# EAGLE library part ZL30250 (library microsemi)
Clock Generator 0.001MHz to 1.25GHz Input
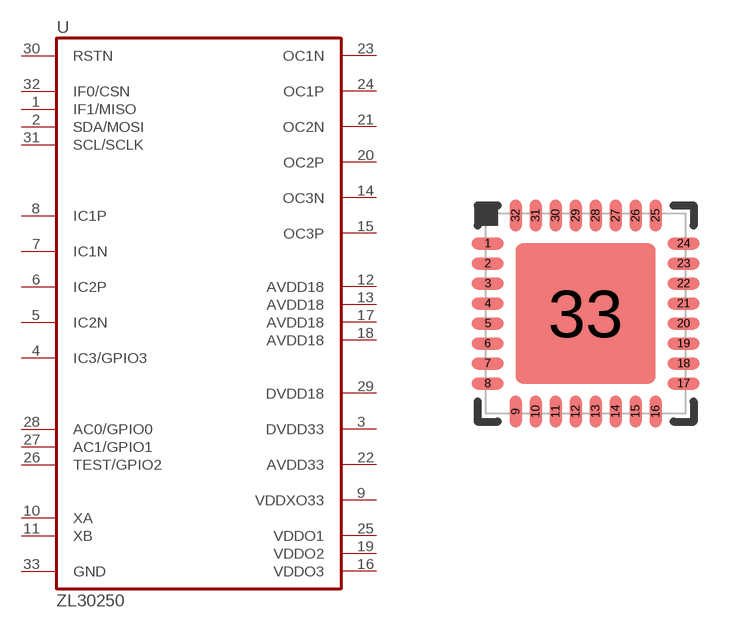
[diagram p0: symbol with the pads of QFN32-5X5; footprint QFN32-5X5]

Designator prefix U

## ZL30250  [QFN32-5X5]
1  IF1/MISO
2  SDA/MOSI
3  DVDD33  oc
4  IC3/GPIO3
5  IC2N
6  IC2P
7  IC1N
8  IC1P
9  VDDXO33  oc
10  XA  in
11  XB  out
12  AVDD18  oc
13  AVDD18  oc
14  OC3N  out
15  OC3P  out
16  VDDO3  oc
17  AVDD18  oc
18  AVDD18  oc
19  VDDO2  oc
20  OC2P  out
21  OC2N  out
22  AVDD33  oc
23  OC1N  out
24  OC1P  out
25  VDDO1  oc
26  TEST/GPIO2
27  AC1/GPIO1
28  AC0/GPIO0
29  DVDD18  oc
30  RSTN  in
31  SCL/SCLK
32  IF0/CSN
33  GND  oc

## Footprint QFN32-5X5 (pad centres in mm)
QFN-32 pitch 0.5 mm, body 5x5 mm
smd 0.8 x 0.3: 1 -2.45,1.75; 2 -2.45,1.25; 3 -2.45,0.75; 4 -2.45,0.25; 5 -2.45,-0.25; 6 -2.45,-0.75; 7 -2.45,-1.25; 8 -2.45,-1.75; 17 2.45,-1.75; 18 2.45,-1.25; 19 2.45,-0.75; 20 2.45,-0.25; 21 2.45,0.25; 22 2.45,0.75; 23 2.45,1.25; 24 2.45,1.75
smd 0.3 x 0.8: 9 -1.75,-2.45; 10 -1.25,-2.45; 11 -0.75,-2.45; 12 -0.25,-2.45; 13 0.25,-2.45; 14 0.75,-2.45; 15 1.25,-2.45; 16 1.75,-2.45; 25 1.75,2.45; 26 1.25,2.45; 27 0.75,2.45; 28 0.25,2.45; 29 -0.25,2.45; 30 -0.75,2.45; 31 -1.25,2.45; 32 -1.75,2.45
smd 3.5 x 3.5: 33 0,0